# Altium footprint library theremin.PcbLib: 4 footprints
Each footprint in its own frame and in the unit in brackets; x right, y up, seen from the top. Pads: shape width x height; smd on the part's side, far side on the other; paste and mask are expansions set on the pad; w line width, h text height; cw(c..) or ccw(c..) is an arc to the next point about the centre after c.
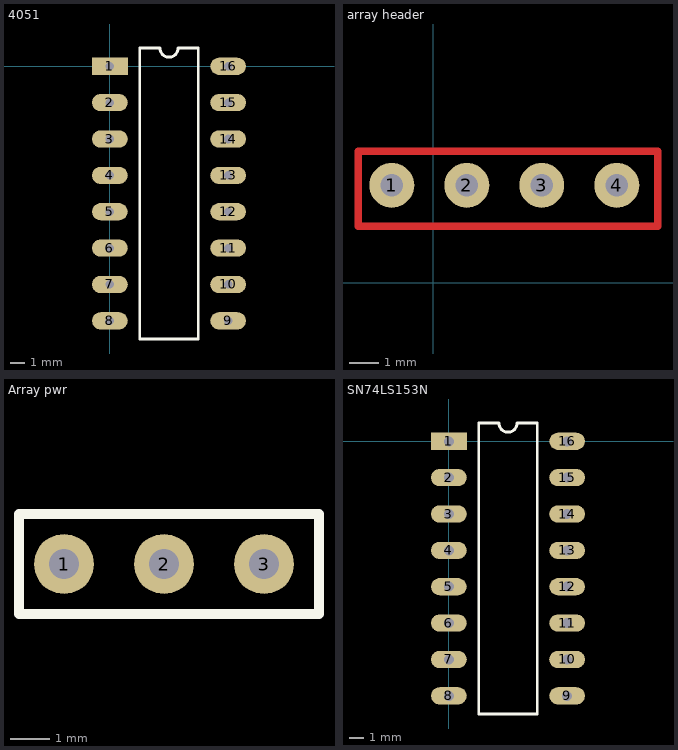
[diagram p0: the footprints below, top view; thin cyan lines are the x and y axes]

## 4051 [mm]
pads (16):
  rect 2.5x1.2 hole 0.6: 1(0,0)
  oval 2.5x1.2 hole 0.6: 2(0,-2.54) 3(0,-5.08) 4(0,-7.62) 5(0,-10.16) 6(0,-12.7) 7(0,-15.24) 8(0,-17.78) 9(8.26,-17.78) 10(8.26,-15.24) 11(8.26,-12.7) 12(8.26,-10.16) 13(8.26,-7.62) 14(8.26,-5.08) 15(8.26,-2.54) 16(8.26,0)
Top Overlay:
  lines w0.2: 2.085,-19.05 6.175,-19.05 6.175,1.27 4.765,1.27 cw(c4.13,1.27) 3.495,1.27 2.085,1.27 2.085,-19.05

## array header [mil]
height 9
pads (4):
  round 60 hole 30: 1(-55,130) 2(45,130) 3(145,130) 4(245,130)
Top Layer:
  lines w10: -100,75 300,75 300,175 -100,175 -100,75

## Array pwr [mil]
height 11.5
pads (3):
  round 60 hole 30: 1(-49630,-49725) 2(-49530,-49725) 3(-49430,-49725)
Top Overlay:
  lines w10: -49675,-49775 -49675,-49675 -49375,-49675 -49375,-49775 -49675,-49775

## SN74LS153N [mm]
pads (16):
  rect 2.5x1.2 hole 0.7: 1(0,0)
  oval 2.5x1.2 hole 0.7: 2(0,-2.54) 3(0,-5.08) 4(0,-7.62) 5(0,-10.16) 6(0,-12.7) 7(0,-15.24) 8(0,-17.78) 9(8.26,-17.78) 10(8.26,-15.24) 11(8.26,-12.7) 12(8.26,-10.16) 13(8.26,-7.62) 14(8.26,-5.08) 15(8.26,-2.54) 16(8.26,0)
Top Overlay:
  lines w0.2: 2.085,-19.05 6.175,-19.05 6.175,1.27 4.765,1.27 cw(c4.13,1.27) 3.495,1.27 2.085,1.27 2.085,-19.05